# Altium schematic symbol library Transistors - Bipolar (BJT) - Single.SchLib: 2 symbols
Pins are listed as number, name and electrical type; pins without a type are passive.

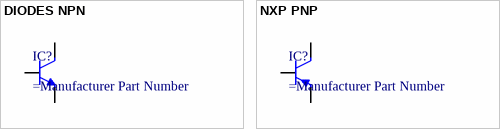
[diagram p0: symbols DIODES NPN to NXP PNP]

## DIODES NPN
designator IC?
NPN Silicon Transistor
footprint DIODES SOT-23-3 (SOT23, 3-Leads, Body 2.90x2.40mm, Pitch 0.95mm, IPC Medium Density)
pins: 1 B, 2 C, 3 E

## NXP PNP
designator IC?
NPN Silicon Transistor
footprint NXP SOT-23-3 TO-236AB (SOT23, 3-Leads, Body 2.90x2.40mm, Pitch 0.95mm, IPC Medium Density)
pins: 1 B, 2 C, 3 E